# Altium footprint library INF-PG-TO252-3-11_M.PcbLib: 1 footprints
Each footprint in its own frame and in the unit in brackets; x right, y up, seen from the top. Pads: shape width x height; smd on the part's side, far side on the other; paste and mask are expansions set on the pad; w line width, h text height; cw(c..) or ccw(c..) is an arc to the next point about the centre after c.
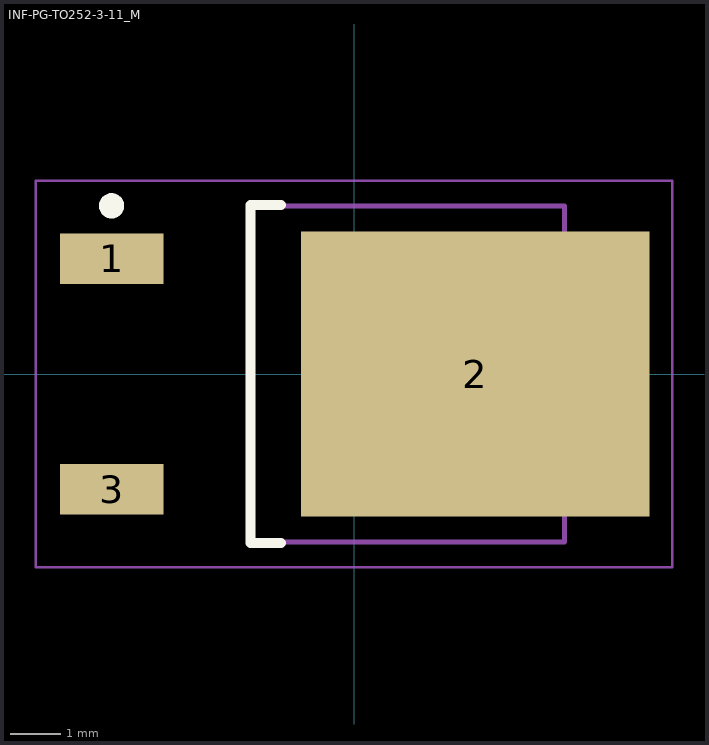
[diagram p0: the footprint, top view; thin cyan lines are the x and y axes]

## INF-PG-TO252-3-11_M [mm] "DPAK, 3-Leads, Body 6.5x6.12mm, Pitch 2.28mm, IPC Low Density"
height 2.35
pads (3):
  rect 2.05x1 smd: 1(-4.8,2.28) 3(-4.8,-2.28)
  rect 6.9x5.65 smd: 2(2.4,0)
Top Overlay:
  circle w0.25: c-4.8,3.33 r0.125
  lines w0.2: -1.45,-3.35 -2.05,-3.35 -2.05,3.35 -1.45,3.35
Mechanical 13:
  lines w0.1: -2.05,-3.325 -2.05,3.325 4.17,3.325 4.17,-3.325 -2.05,-3.325
Mechanical 15:
  lines w0.05: -6.3,-3.825 -6.3,3.825 6.3,3.825 6.3,-3.825 -6.3,-3.825
  lines w0.1: -0.5,0 0.5,0 ; 0,-0.5 0,0.5
3D body: height 2.35, standoff 0, extent -2.05,-3.325 4.17,3.325